# Altium schematic symbol library LL.SCHLIB: 121 symbols (part 3 of 3)
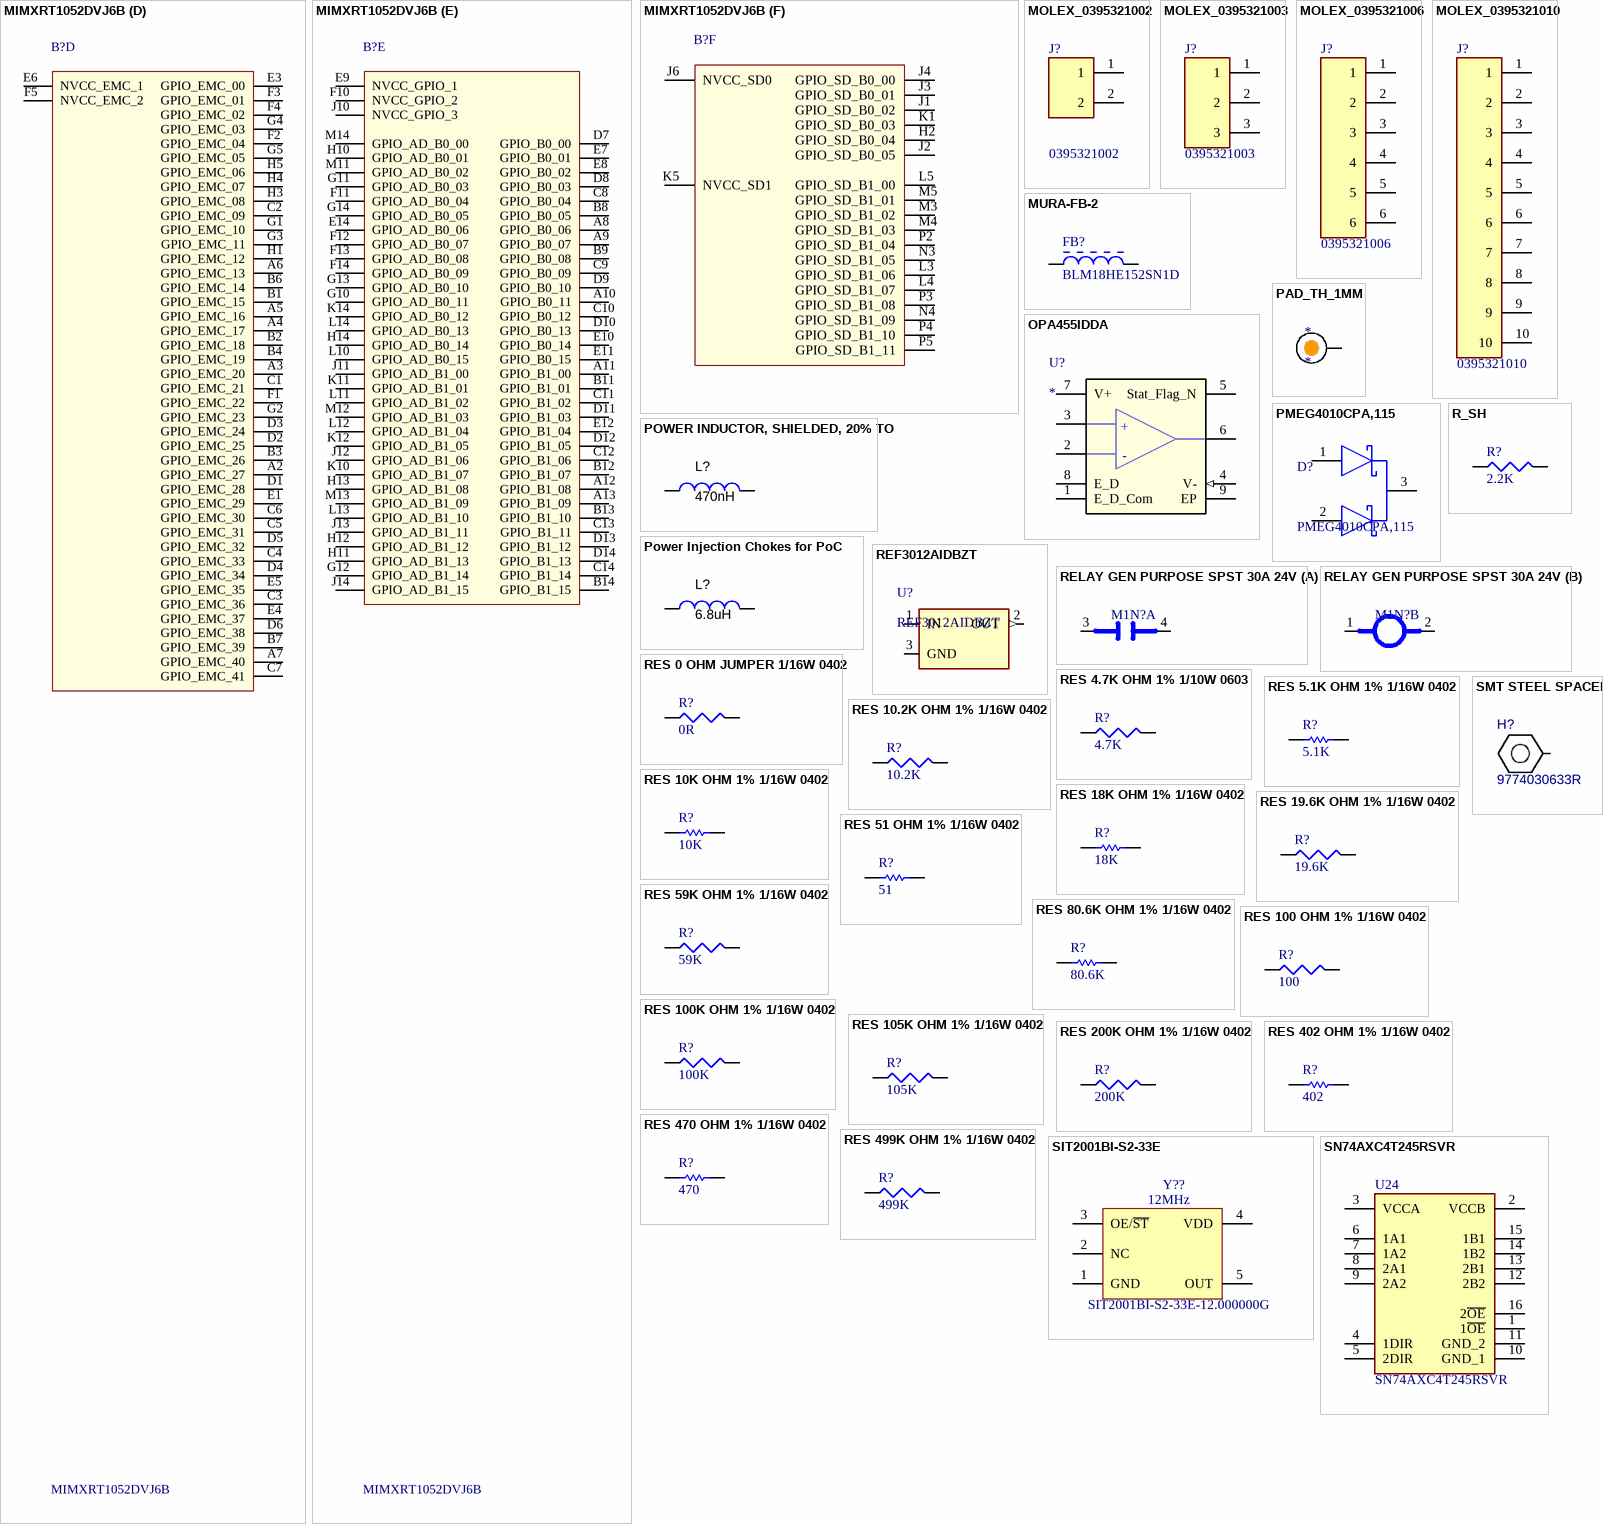
[diagram p9: symbols MIMXRT1052DVJ6B to SN74AXC4T245RSVR]

## RES 499K OHM 1% 1/16W 0402
designator R?, comment 499K
RES 499K OHM 1% 1/16W 0402; Manufacturer Part Number: RC0402FR-07499KL; Manufacturer: YAGEO; Supplier Part Number 1: 311-499KLRCT-ND; Supplier 1: Digi-Key; Height: 0.4mm; Package: 0402; value: 499K
footprint RESC1005X40USR (Resistor, Chip; 1.00 mm L X 0.50 mm W X 0.40 mm H body)
pins: 1, 2

## SIT2001BI-S2-33E
designator Y??, comment 12MHz  MPN: SIT2001BI-S2-33E-12.000000G
MEMS OSC XO 12.0000MHZ H/LV-CMOS; Mfg: SiTIME; Supplier PN: 1473-SIT2001BI-S2-33E-12.000000G-ND
footprint SOT23-5
pins: 1 GND, 2 NC, 3 OE/~{ST}, 4 VDD, 5 OUT

## SMT STEEL SPACER
designator H?, comment 9774030633R
SMT STEEL SPACER, M1.6 INTERNAL; Manufacturer: Würth Elektronik; PartNumber: 9774030633R; ComponentLink1Description: Datasheet Link; ComponentLink1URL: https://sps16.itg.ti.com/sites/KMS/crossdivteams/altium/docs/ComponentDatasheets/1104004000018---MAE-10.pdf; Supplier 1: Digi-Key; Supplier Part Number 1: 732-13691-2-ND
footprint 9774030633R
pins: 1

## SN74AXC4T245RSVR
designator U24
Integrated Circuit; Manufacturer_Name: Texas Instruments; Datasheet Link: http://www.ti.com/lit/gpn/SN74AXC4T245; Manufacturer_Part_Number: SN74AXC4T245RSVR; Mouser Part Number: 595-SN74AXC4T245RSVR; Mouser Price/Stock: https://www.mouser.co.uk/ProductDetail/Texas-Instruments/SN74AXC4T245RSVR?qs=l7cgNqFNU1h2hzizf0vSnA%3D%3D; Arrow Part Number: SN74AXC4T245RSVR; Arrow Price/Stock: https://www.arrow.com/en/products/sn74axc4t245rsvr/texas-instruments
footprint SN74AVC4T245RSVR
pins: 1 1~{OE}, 2 VCCB, 3 VCCA, 4 1DIR, 5 2DIR, 6 1A1, 7 1A2, 8 2A1, 9 2A2, 10 GND_1, 11 GND_2, 12 2B2, 13 2B1, 14 1B2, 15 1B1, 16 2~{OE}

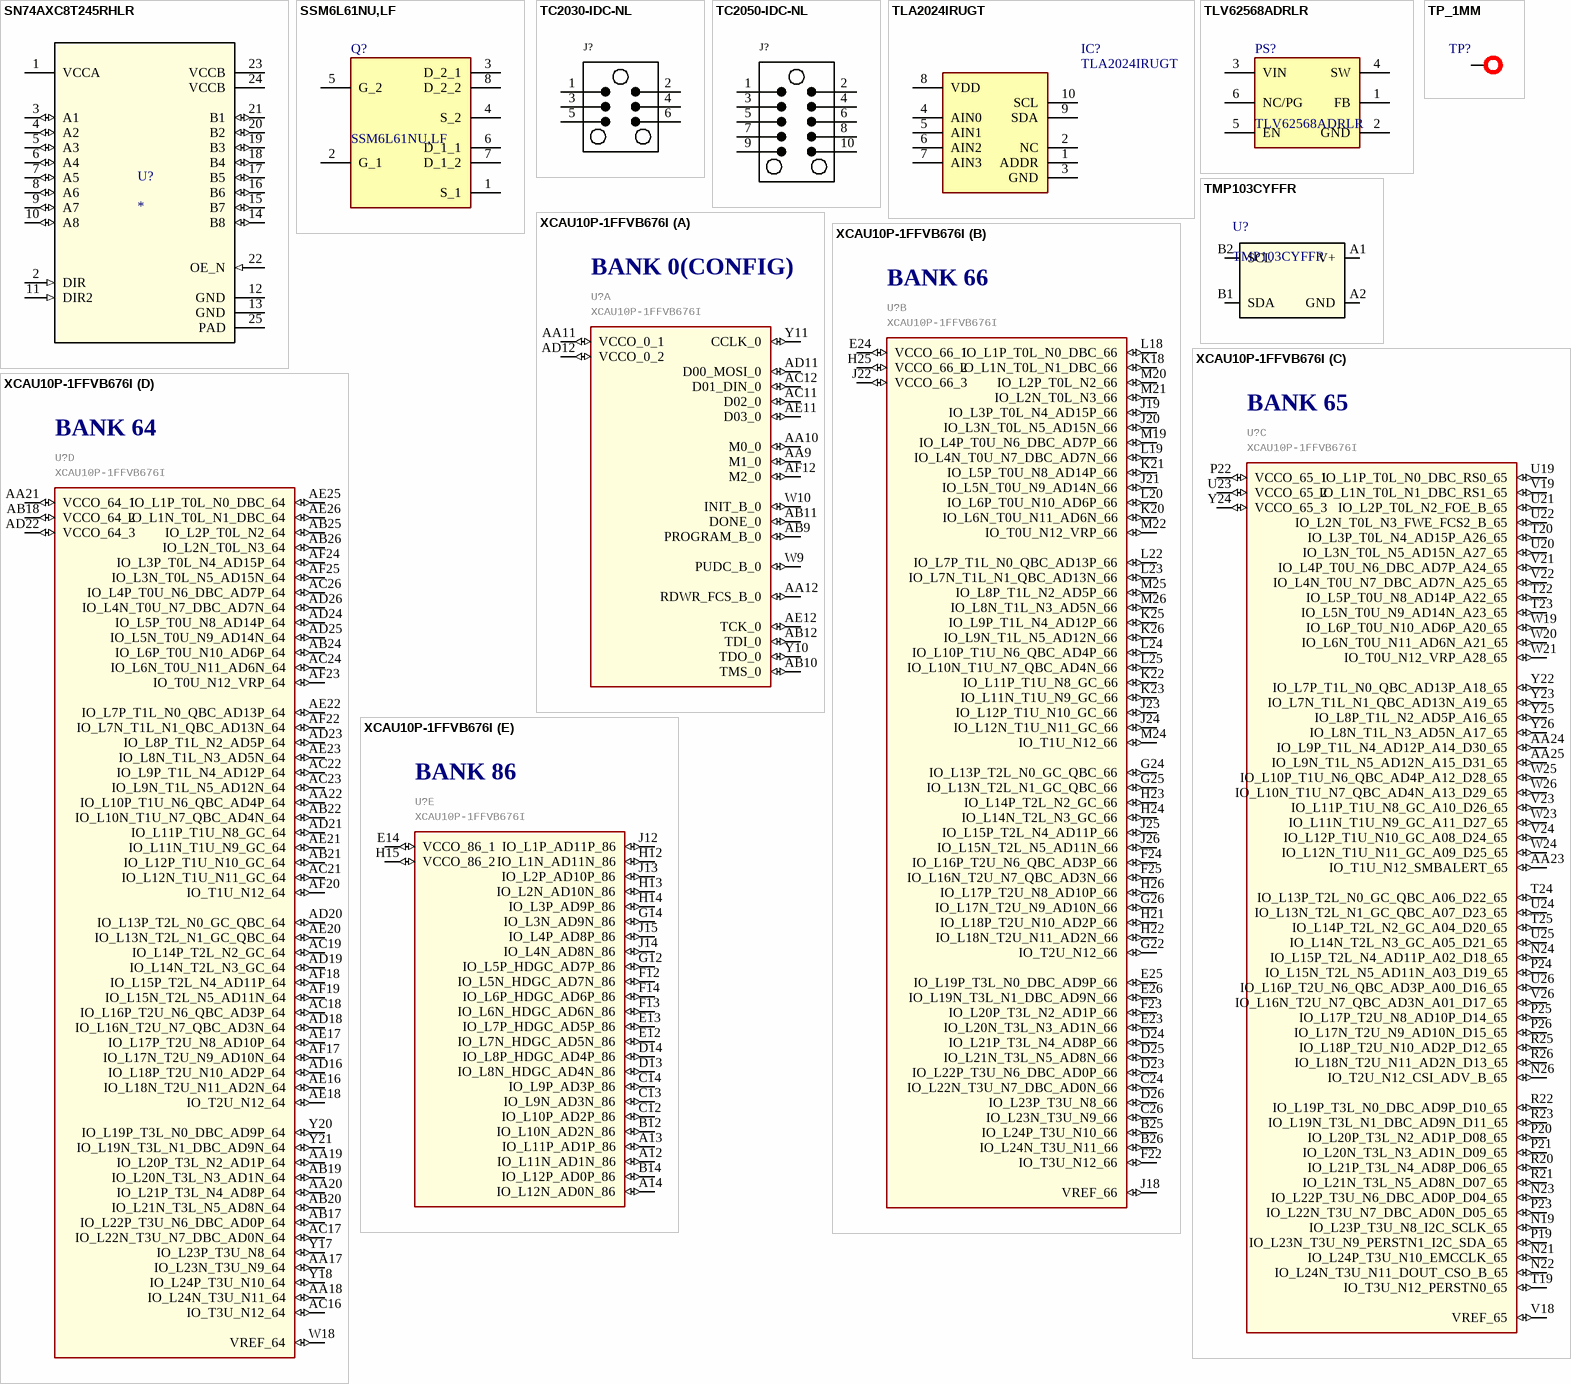
[diagram p6: symbols SN74AXC8T245RHLR to XCAU10P-1FFVB676I]

## SN74AXC8T245RHLR
designator U?
No Description Available; PartNumber: SN74AXC8T245RHLR; Manufacturer: Texas Instruments; RefDes: RefDes; Type: DEV; Value: Value; Copyright: Copyright (C) 2018 Accelerated Designs. All rights reserved
footprint RHL0024A
pins: 1 VCCA (power), 2 DIR (in), 3 A1 (io), 4 A2 (io), 5 A3 (io), 6 A4 (io), 7 A5 (io), 8 A6 (io), 9 A7 (io), 10 A8 (io), 11 DIR2 (in), 12 GND (power), 13 GND (power), 14 B8 (io), 15 B7 (io), 16 B6 (io), 17 B5 (io), 18 B4 (io), 19 B3 (io), 20 B2 (io), 21 B1 (io), 22 OE_N (in), 23 VCCB (power), 24 VCCB (power), 25 PAD

## SSM6L61NU,LF
designator Q?
MOSFET (N-Channel); Manufacturer_Name: Toshiba; Datasheet Link: https://toshiba.semicon-storage.com/info/docget.jsp?did=35567&prodName=SSM6L61NU; Height: 0.8mm; Manufacturer_Part_Number: SSM6L61NU,LF; Mouser Part Number: 757-SSM6L61NULF; Mouser Price/Stock: https://www.mouser.com/Search/Refine.aspx?Keyword=757-SSM6L61NULF; Arrow Part Number: SSM6L61NU,LF; Arrow Price/Stock: https://www.arrow.com/en/products/ssm6l61nulf/toshiba
footprint SSM6N68NULF
pins: 1 S_1, 2 G_1, 3 D_2_1, 4 S_2, 5 G_2, 6 D_1_1, 7 D_1_2, 8 D_2_2

## TC2030-IDC-NL
designator J?, comment Spy-Bi-Wire Needle Adapter  (value not drawn)  (no BOM)
Distributor: DigiKey; Package: Spy-Bi-Wire Needle Adapter; Value: Spy-Bi-Wire Needle Adapter
footprint TC2030-IDC-NL (Tag-Connect 6-Pin with No Legs (PN# TC2030-IDC-NL))
pins: 1 Pin, 2 Pin, 3 Pin, 4 Pin, 5 Pin, 6 Pin

## TC2050-IDC-NL
designator J?  (value not drawn)  (no BOM)
CBL PLUG-OF-NAILS 10-PIN; Distributor: DigiKey; Package: TC2050-IDC-NL; Value: TC2050-IDC-NL; Supplier Part Number 1: TC2050-IDC-NL-ND
footprint TC2030-IDC-NL (Tag-Connect 6-Pin with No Legs (PN# TC2030-IDC-NL))
pins: 1 Pin, 2 Pin, 3 Pin, 4 Pin, 5 Pin, 6 Pin, 7 Pin, 8 Pin, 9 Pin, 10 Pin

## TLA2024IRUGT
designator IC?
Integrated Circuit; Manufacturer_Name: Texas Instruments; Datasheet Link: http://www.ti.com/lit/ds/sbas846/sbas846.pdf; Height: 0.4mm; Manufacturer_Part_Number: TLA2024IRUGT; Mouser Part Number: 595-TLA2024IRUGT; Mouser Price/Stock: https://www.mouser.co.uk/ProductDetail/Texas-Instruments/TLA2024IRUGT/?qs=chTDxNqvsylxt6cbA39OGw%3D%3D; Arrow Part Number: TLA2024IRUGT; Arrow Price/Stock: https://www.arrow.com/en/products/tla2024irugt/texas-instruments
footprint ADS1018IRUGT
pins: 1 ADDR, 2 NC, 3 GND, 4 AIN0, 5 AIN1, 6 AIN2, 7 AIN3, 8 VDD, 9 SDA, 10 SCL

## TLV62568ADRLR
designator PS?
Power Supply; Manufacturer_Name: Texas Instruments; Datasheet Link: http://www.ti.com/lit/gpn/tlv62568a; Height: 0.6mm; Manufacturer_Part_Number: TLV62568ADRLR; Mouser Part Number: 595-TLV62568ADRLR; Mouser Price/Stock: https://www.mouser.co.uk/ProductDetail/Texas-Instruments/TLV62568ADRLR?qs=MLItCLRbWswaiJ7CZkvDtQ%3D%3D; Arrow Part Number: TLV62568ADRLR; Arrow Price/Stock: https://www.arrow.com/en/products/tlv62568adrlr/texas-instruments
footprint SOTFL50P160X60-6N
pins: 1 FB, 2 GND, 3 VIN, 4 SW, 5 EN, 6 NC/PG

## TMP103CYFFR
designator U?
SENSOR DIGITAL -40C-125C 4DSBGA; PartNumber: TMP103AYFFR; Manufacturer: Texas Instruments; Digi-Key Part Number: 296-28342-2-ND; Type: DEV; Value: Value; Copyright: Copyright (C) 2018 Accelerated Designs. All rights reserved
footprint YFF0004AAAA
pins: A1 V+, A2 GND, B1 SDA, B2 SCL

## TP_1MM
designator TP?, comment TEST POINT  (value not drawn)  (no BOM)
footprint TP 1mm (1 mm Probe Pad)
pins: 1

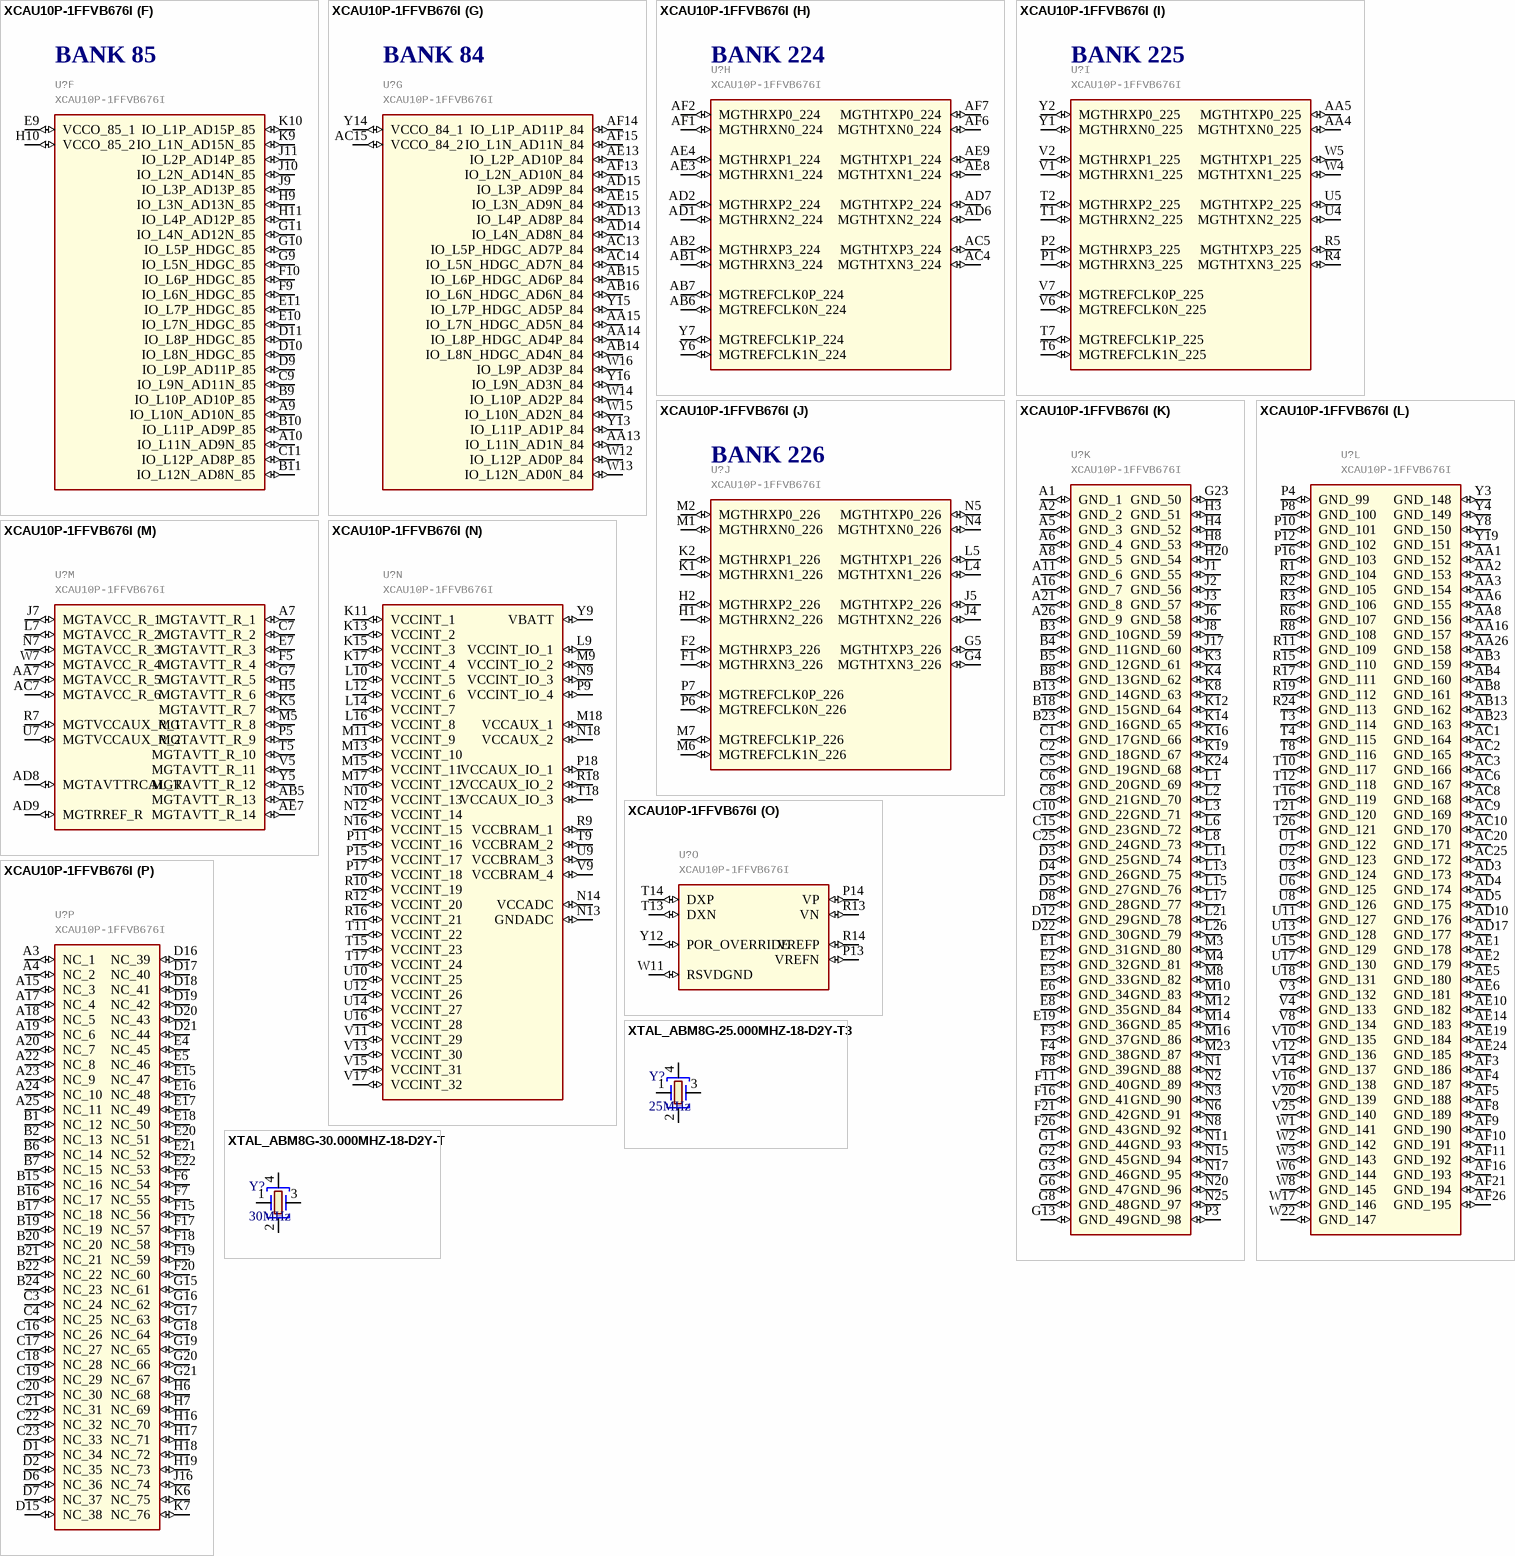
[diagram p7: symbols XCAU10P-1FFVB676I to XTAL_ABM8G-30.000MHZ-18-D2Y-T]

## XCAU10P-1FFVB676I
designator U?
IC FPGA ARTIXUP 676BGA; Manufacturer: AMD Xilinx; Manufacturer Part Number: XCAU10P-1FFVB676I; Supplier Part Number 1: 122-XCAU10P-1FFVB676I-ND; Supplier 1: Supplier
footprint 676-FCBGA (27x27)
part A pins: AA9 M1_0 (io), AA10 M0_0 (io), AA11 VCCO_0_1 (io), AA12 RDWR_FCS_B_0 (io), AB9 PROGRAM_B_0 (io), AB10 TMS_0 (io), AB11 DONE_0 (io), AB12 TDI_0 (io), AC11 D02_0 (io), AC12 D01_DIN_0 (io), AD11 D00_MOSI_0 (io), AD12 VCCO_0_2 (io), AE11 D03_0 (io), AE12 TCK_0 (io), AF12 M2_0 (io), W9 PUDC_B_0 (io), W10 INIT_B_0 (io), Y10 TDO_0 (io), Y11 CCLK_0 (io)
part B pins: B25 IO_L24P_T3U_N10_66 (io), B26 IO_L24N_T3U_N11_66 (io), C24 IO_L22N_T3U_N7_DBC_AD0N_66 (io), C26 IO_L23N_T3U_N9_66 (io), D23 IO_L22P_T3U_N6_DBC_AD0P_66 (io), D24 IO_L21P_T3L_N4_AD8P_66 (io), D25 IO_L21N_T3L_N5_AD8N_66 (io), D26 IO_L23P_T3U_N8_66 (io), E23 IO_L20N_T3L_N3_AD1N_66 (io), E24 VCCO_66_1 (io), E25 IO_L19P_T3L_N0_DBC_AD9P_66 (io), E26 IO_L19N_T3L_N1_DBC_AD9N_66 (io), F22 IO_T3U_N12_66 (io), F23 IO_L20P_T3L_N2_AD1P_66 (io), F24 IO_L16P_T2U_N6_QBC_AD3P_66 (io), F25 IO_L16N_T2U_N7_QBC_AD3N_66 (io), G22 IO_T2U_N12_66 (io), G24 IO_L13P_T2L_N0_GC_QBC_66 (io), G25 IO_L13N_T2L_N1_GC_QBC_66 (io), G26 IO_L17N_T2U_N9_AD10N_66 (io), H21 IO_L18P_T2U_N10_AD2P_66 (io), H22 IO_L18N_T2U_N11_AD2N_66 (io), H23 IO_L14P_T2L_N2_GC_66 (io), H24 IO_L14N_T2L_N3_GC_66 (io), H25 VCCO_66_2 (io), H26 IO_L17P_T2U_N8_AD10P_66 (io), J18 VREF_66 (io), J19 IO_L3P_T0L_N4_AD15P_66 (io), J20 IO_L3N_T0L_N5_AD15N_66 (io), J21 IO_L5N_T0U_N9_AD14N_66 (io), J22 VCCO_66_3 (io), J23 IO_L12P_T1U_N10_GC_66 (io), J24 IO_L12N_T1U_N11_GC_66 (io), J25 IO_L15P_T2L_N4_AD11P_66 (io), J26 IO_L15N_T2L_N5_AD11N_66 (io), K18 IO_L1N_T0L_N1_DBC_66 (io), K20 IO_L6N_T0U_N11_AD6N_66 (io), K21 IO_L5P_T0U_N8_AD14P_66 (io), K22 IO_L11P_T1U_N8_GC_66 (io), K23 IO_L11N_T1U_N9_GC_66 (io), K25 IO_L9P_T1L_N4_AD12P_66 (io), K26 IO_L9N_T1L_N5_AD12N_66 (io), L18 IO_L1P_T0L_N0_DBC_66 (io), L19 IO_L4N_T0U_N7_DBC_AD7N_66 (io), L20 IO_L6P_T0U_N10_AD6P_66 (io), L22 IO_L7P_T1L_N0_QBC_AD13P_66 (io), L23 IO_L7N_T1L_N1_QBC_AD13N_66 (io), L24 IO_L10P_T1U_N6_QBC_AD4P_66 (io), L25 IO_L10N_T1U_N7_QBC_AD4N_66 (io), M19 IO_L4P_T0U_N6_DBC_AD7P_66 (io), M20 IO_L2P_T0L_N2_66 (io), M21 IO_L2N_T0L_N3_66 (io), M22 IO_T0U_N12_VRP_66 (io), M24 IO_T1U_N12_66 (io), M25 IO_L8P_T1L_N2_AD5P_66 (io), M26 IO_L8N_T1L_N3_AD5N_66 (io)
part C pins: AA23 IO_T1U_N12_SMBALERT_65 (io), AA24 IO_L9P_T1L_N4_AD12P_A14_D30_65 (io), AA25 IO_L9N_T1L_N5_AD12N_A15_D31_65 (io), N19 IO_L23P_T3U_N8_I2C_SCLK_65 (io), N21 IO_L24P_T3U_N10_EMCCLK_65 (io), N22 IO_L24N_T3U_N11_DOUT_CSO_B_65 (io), N23 IO_L22P_T3U_N6_DBC_AD0P_D04_65 (io), N24 IO_L15P_T2L_N4_AD11P_A02_D18_65 (io), N26 IO_T2U_N12_CSI_ADV_B_65 (io), P19 IO_L23N_T3U_N9_PERSTN1_I2C_SDA_65 (io), P20 IO_L20P_T3L_N2_AD1P_D08_65 (io), P21 IO_L20N_T3L_N3_AD1N_D09_65 (io), P22 VCCO_65_1 (io), P23 IO_L22N_T3U_N7_DBC_AD0N_D05_65 (io), P24 IO_L15N_T2L_N5_AD11N_A03_D19_65 (io), P25 IO_L17P_T2U_N8_AD10P_D14_65 (io), P26 IO_L17N_T2U_N9_AD10N_D15_65 (io), R20 IO_L21P_T3L_N4_AD8P_D06_65 (io), R21 IO_L21N_T3L_N5_AD8N_D07_65 (io), R22 IO_L19P_T3L_N0_DBC_AD9P_D10_65 (io), R23 IO_L19N_T3L_N1_DBC_AD9N_D11_65 (io), R25 IO_L18P_T2U_N10_AD2P_D12_65 (io), R26 IO_L18N_T2U_N11_AD2N_D13_65 (io), T19 IO_T3U_N12_PERSTN0_65 (io), T20 IO_L3P_T0L_N4_AD15P_A26_65 (io), T22 IO_L5P_T0U_N8_AD14P_A22_65 (io), T23 IO_L5N_T0U_N9_AD14N_A23_65 (io), T24 IO_L13P_T2L_N0_GC_QBC_A06_D22_65 (io), T25 IO_L14P_T2L_N2_GC_A04_D20_65 (io), U19 IO_L1P_T0L_N0_DBC_RS0_65 (io), U20 IO_L3N_T0L_N5_AD15N_A27_65 (io), U21 IO_L2P_T0L_N2_FOE_B_65 (io), U22 IO_L2N_T0L_N3_FWE_FCS2_B_65 (io), U23 VCCO_65_2 (io), U24 IO_L13N_T2L_N1_GC_QBC_A07_D23_65 (io), U25 IO_L14N_T2L_N3_GC_A05_D21_65 (io), U26 IO_L16P_T2U_N6_QBC_AD3P_A00_D16_65 (io), V18 VREF_65 (io), V19 IO_L1N_T0L_N1_DBC_RS1_65 (io), V21 IO_L4P_T0U_N6_DBC_AD7P_A24_65 (io), V22 IO_L4N_T0U_N7_DBC_AD7N_A25_65 (io), V23 IO_L11P_T1U_N8_GC_A10_D26_65 (io), V24 IO_L12P_T1U_N10_GC_A08_D24_65 (io), V26 IO_L16N_T2U_N7_QBC_AD3N_A01_D17_65 (io), W19 IO_L6P_T0U_N10_AD6P_A20_65 (io), W20 IO_L6N_T0U_N11_AD6N_A21_65 (io), W21 IO_T0U_N12_VRP_A28_65 (io), W23 IO_L11N_T1U_N9_GC_A11_D27_65 (io), W24 IO_L12N_T1U_N11_GC_A09_D25_65 (io), W25 IO_L10P_T1U_N6_QBC_AD4P_A12_D28_65 (io), W26 IO_L10N_T1U_N7_QBC_AD4N_A13_D29_65 (io), Y22 IO_L7P_T1L_N0_QBC_AD13P_A18_65 (io), Y23 IO_L7N_T1L_N1_QBC_AD13N_A19_65 (io), Y24 VCCO_65_3 (io), Y25 IO_L8P_T1L_N2_AD5P_A16_65 (io), Y26 IO_L8N_T1L_N3_AD5N_A17_65 (io)
part D pins: AA17 IO_L23N_T3U_N9_64 (io), AA18 IO_L24N_T3U_N11_64 (io), AA19 IO_L20P_T3L_N2_AD1P_64 (io), AA20 IO_L21P_T3L_N4_AD8P_64 (io), AA21 VCCO_64_1 (io), AA22 IO_L10P_T1U_N6_QBC_AD4P_64 (io), AB17 IO_L22P_T3U_N6_DBC_AD0P_64 (io), AB18 VCCO_64_2 (io), AB19 IO_L20N_T3L_N3_AD1N_64 (io), AB20 IO_L21N_T3L_N5_AD8N_64 (io), AB21 IO_L12P_T1U_N10_GC_64 (io), AB22 IO_L10N_T1U_N7_QBC_AD4N_64 (io), AB24 IO_L6P_T0U_N10_AD6P_64 (io), AB25 IO_L2P_T0L_N2_64 (io), AB26 IO_L2N_T0L_N3_64 (io), AC16 IO_T3U_N12_64 (io), AC17 IO_L22N_T3U_N7_DBC_AD0N_64 (io), AC18 IO_L16P_T2U_N6_QBC_AD3P_64 (io), AC19 IO_L14P_T2L_N2_GC_64 (io), AC21 IO_L12N_T1U_N11_GC_64 (io), AC22 IO_L9P_T1L_N4_AD12P_64 (io), AC23 IO_L9N_T1L_N5_AD12N_64 (io), AC24 IO_L6N_T0U_N11_AD6N_64 (io), AC26 IO_L4P_T0U_N6_DBC_AD7P_64 (io), AD16 IO_L18P_T2U_N10_AD2P_64 (io), AD18 IO_L16N_T2U_N7_QBC_AD3N_64 (io), AD19 IO_L14N_T2L_N3_GC_64 (io), AD20 IO_L13P_T2L_N0_GC_QBC_64 (io), AD21 IO_L11P_T1U_N8_GC_64 (io), AD22 VCCO_64_3 (io), AD23 IO_L8P_T1L_N2_AD5P_64 (io), AD24 IO_L5P_T0U_N8_AD14P_64 (io), AD25 IO_L5N_T0U_N9_AD14N_64 (io), AD26 IO_L4N_T0U_N7_DBC_AD7N_64 (io), AE16 IO_L18N_T2U_N11_AD2N_64 (io), AE17 IO_L17P_T2U_N8_AD10P_64 (io), AE18 IO_T2U_N12_64 (io), AE20 IO_L13N_T2L_N1_GC_QBC_64 (io), AE21 IO_L11N_T1U_N9_GC_64 (io), AE22 IO_L7P_T1L_N0_QBC_AD13P_64 (io), AE23 IO_L8N_T1L_N3_AD5N_64 (io), AE25 IO_L1P_T0L_N0_DBC_64 (io), AE26 IO_L1N_T0L_N1_DBC_64 (io), AF17 IO_L17N_T2U_N9_AD10N_64 (io), AF18 IO_L15P_T2L_N4_AD11P_64 (io), AF19 IO_L15N_T2L_N5_AD11N_64 (io), AF20 IO_T1U_N12_64 (io), AF22 IO_L7N_T1L_N1_QBC_AD13N_64 (io), AF23 IO_T0U_N12_VRP_64 (io), AF24 IO_L3P_T0L_N4_AD15P_64 (io), AF25 IO_L3N_T0L_N5_AD15N_64 (io), W18 VREF_64 (io), Y17 IO_L23P_T3U_N8_64 (io), Y18 IO_L24P_T3U_N10_64 (io), Y20 IO_L19P_T3L_N0_DBC_AD9P_64 (io), Y21 IO_L19N_T3L_N1_DBC_AD9N_64 (io)
part E pins: A12 IO_L11N_AD1N_86 (io), A13 IO_L11P_AD1P_86 (io), A14 IO_L12N_AD0N_86 (io), B12 IO_L10N_AD2N_86 (io), B14 IO_L12P_AD0P_86 (io), C12 IO_L10P_AD2P_86 (io), C13 IO_L9N_AD3N_86 (io), C14 IO_L9P_AD3P_86 (io), D13 IO_L8N_HDGC_AD4N_86 (io), D14 IO_L8P_HDGC_AD4P_86 (io), E12 IO_L7N_HDGC_AD5N_86 (io), E13 IO_L7P_HDGC_AD5P_86 (io), E14 VCCO_86_1 (io), F12 IO_L5N_HDGC_AD7N_86 (io), F13 IO_L6N_HDGC_AD6N_86 (io), F14 IO_L6P_HDGC_AD6P_86 (io), G12 IO_L5P_HDGC_AD7P_86 (io), G14 IO_L3N_AD9N_86 (io), H12 IO_L1N_AD11N_86 (io), H13 IO_L2N_AD10N_86 (io), H14 IO_L3P_AD9P_86 (io), H15 VCCO_86_2 (io), J12 IO_L1P_AD11P_86 (io), J13 IO_L2P_AD10P_86 (io), J14 IO_L4N_AD8N_86 (io), J15 IO_L4P_AD8P_86 (io)
part F pins: A9 IO_L10N_AD10N_85 (io), A10 IO_L11N_AD9N_85 (io), B9 IO_L10P_AD10P_85 (io), B10 IO_L11P_AD9P_85 (io), B11 IO_L12N_AD8N_85 (io), C9 IO_L9N_AD11N_85 (io), C11 IO_L12P_AD8P_85 (io), D9 IO_L9P_AD11P_85 (io), D10 IO_L8N_HDGC_85 (io), D11 IO_L8P_HDGC_85 (io), E9 VCCO_85_1 (io), E10 IO_L7N_HDGC_85 (io), E11 IO_L7P_HDGC_85 (io), F9 IO_L6N_HDGC_85 (io), F10 IO_L6P_HDGC_85 (io), G9 IO_L5N_HDGC_85 (io), G10 IO_L5P_HDGC_85 (io), G11 IO_L4N_AD12N_85 (io), H9 IO_L3N_AD13N_85 (io), H10 VCCO_85_2 (io), H11 IO_L4P_AD12P_85 (io), J9 IO_L3P_AD13P_85 (io), J10 IO_L2N_AD14N_85 (io), J11 IO_L2P_AD14P_85 (io), K9 IO_L1N_AD15N_85 (io), K10 IO_L1P_AD15P_85 (io)
part G pins: AA13 IO_L11N_AD1N_84 (io), AA14 IO_L8P_HDGC_AD4P_84 (io), AA15 IO_L7N_HDGC_AD5N_84 (io), AB14 IO_L8N_HDGC_AD4N_84 (io), AB15 IO_L6P_HDGC_AD6P_84 (io), AB16 IO_L6N_HDGC_AD6N_84 (io), AC13 IO_L5P_HDGC_AD7P_84 (io), AC14 IO_L5N_HDGC_AD7N_84 (io), AC15 VCCO_84_2 (io), AD13 IO_L4P_AD8P_84 (io), AD14 IO_L4N_AD8N_84 (io), AD15 IO_L3P_AD9P_84 (io), AE13 IO_L2P_AD10P_84 (io), AE15 IO_L3N_AD9N_84 (io), AF13 IO_L2N_AD10N_84 (io), AF14 IO_L1P_AD11P_84 (io), AF15 IO_L1N_AD11N_84 (io), W12 IO_L12P_AD0P_84 (io), W13 IO_L12N_AD0N_84 (io), W14 IO_L10P_AD2P_84 (io), W15 IO_L10N_AD2N_84 (io), W16 IO_L9P_AD3P_84 (io), Y13 IO_L11P_AD1P_84 (io), Y14 VCCO_84_1 (io), Y15 IO_L7P_HDGC_AD5P_84 (io), Y16 IO_L9N_AD3N_84 (io)
part H pins: AB1 MGTHRXN3_224 (io), AB2 MGTHRXP3_224 (io), AB6 MGTREFCLK0N_224 (io), AB7 MGTREFCLK0P_224 (io), AC4 MGTHTXN3_224 (io), AC5 MGTHTXP3_224 (io), AD1 MGTHRXN2_224 (io), AD2 MGTHRXP2_224 (io), AD6 MGTHTXN2_224 (io), AD7 MGTHTXP2_224 (io), AE3 MGTHRXN1_224 (io), AE4 MGTHRXP1_224 (io), AE8 MGTHTXN1_224 (io), AE9 MGTHTXP1_224 (io), AF1 MGTHRXN0_224 (io), AF2 MGTHRXP0_224 (io), AF6 MGTHTXN0_224 (io), AF7 MGTHTXP0_224 (io), Y6 MGTREFCLK1N_224 (io), Y7 MGTREFCLK1P_224 (io)
part I pins: AA4 MGTHTXN0_225 (io), AA5 MGTHTXP0_225 (io), P1 MGTHRXN3_225 (io), P2 MGTHRXP3_225 (io), R4 MGTHTXN3_225 (io), R5 MGTHTXP3_225 (io), T1 MGTHRXN2_225 (io), T2 MGTHRXP2_225 (io), T6 MGTREFCLK1N_225 (io), T7 MGTREFCLK1P_225 (io), U4 MGTHTXN2_225 (io), U5 MGTHTXP2_225 (io), V1 MGTHRXN1_225 (io), V2 MGTHRXP1_225 (io), V6 MGTREFCLK0N_225 (io), V7 MGTREFCLK0P_225 (io), W4 MGTHTXN1_225 (io), W5 MGTHTXP1_225 (io), Y1 MGTHRXN0_225 (io), Y2 MGTHRXP0_225 (io)
part J pins: F1 MGTHRXN3_226 (io), F2 MGTHRXP3_226 (io), G4 MGTHTXN3_226 (io), G5 MGTHTXP3_226 (io), H1 MGTHRXN2_226 (io), H2 MGTHRXP2_226 (io), J4 MGTHTXN2_226 (io), J5 MGTHTXP2_226 (io), K1 MGTHRXN1_226 (io), K2 MGTHRXP1_226 (io), L4 MGTHTXN1_226 (io), L5 MGTHTXP1_226 (io), M1 MGTHRXN0_226 (io), M2 MGTHRXP0_226 (io), M6 MGTREFCLK1N_226 (io), M7 MGTREFCLK1P_226 (io), N4 MGTHTXN0_226 (io), N5 MGTHTXP0_226 (io), P6 MGTREFCLK0N_226 (io), P7 MGTREFCLK0P_226 (io)
part K pins: A1 GND_1 (io), A2 GND_2 (io), A5 GND_3 (io), A6 GND_4 (io), A8 GND_5 (io), A11 GND_6 (io), A16 GND_7 (io), A21 GND_8 (io), A26 GND_9 (io), B3 GND_10 (io), B4 GND_11 (io), B5 GND_12 (io), B8 GND_13 (io), B13 GND_14 (io), B18 GND_15 (io), B23 GND_16 (io), C1 GND_17 (io), C2 GND_18 (io), C5 GND_19 (io), C6 GND_20 (io), C8 GND_21 (io), C10 GND_22 (io), C15 GND_23 (io), C25 GND_24 (io), D3 GND_25 (io), D4 GND_26 (io), D5 GND_27 (io), D8 GND_28 (io), D12 GND_29 (io), D22 GND_30 (io), E1 GND_31 (io), E2 GND_32 (io), E3 GND_33 (io), E6 GND_34 (io), E8 GND_35 (io), E19 GND_36 (io), F3 GND_37 (io), F4 GND_38 (io), F8 GND_39 (io), F11 GND_40 (io), F16 GND_41 (io), F21 GND_42 (io), F26 GND_43 (io), G1 GND_44 (io), G2 GND_45 (io), G3 GND_46 (io), G6 GND_47 (io), G8 GND_48 (io), G13 GND_49 (io), G23 GND_50 (io), H3 GND_51 (io), H4 GND_52 (io), H8 GND_53 (io), H20 GND_54 (io), J1 GND_55 (io), J2 GND_56 (io), J3 GND_57 (io), J6 GND_58 (io), J8 GND_59 (io), J17 GND_60 (io), K3 GND_61 (io), K4 GND_62 (io), K8 GND_63 (io), K12 GND_64 (io), K14 GND_65 (io), K16 GND_66 (io), K19 GND_67 (io), K24 GND_68 (io), L1 GND_69 (io), L2 GND_70 (io), L3 GND_71 (io), L6 GND_72 (io), L8 GND_73 (io), L11 GND_74 (io), L13 GND_75 (io), L15 GND_76 (io), L17 GND_77 (io), L21 GND_78 (io), L26 GND_79 (io), M3 GND_80 (io), M4 GND_81 (io), M8 GND_82 (io), M10 GND_83 (io), M12 GND_84 (io), M14 GND_85 (io), M16 GND_86 (io), M23 GND_87 (io), N1 GND_88 (io), N2 GND_89 (io), N3 GND_90 (io), N6 GND_91 (io), N8 GND_92 (io), N11 GND_93 (io), N15 GND_94 (io), N17 GND_95 (io), N20 GND_96 (io), N25 GND_97 (io), P3 GND_98 (io)
part L pins: AA1 GND_152 (io), AA2 GND_153 (io), AA3 GND_154 (io), AA6 GND_155 (io), AA8 GND_156 (io), AA16 GND_157 (io), AA26 GND_158 (io), AB3 GND_159 (io), AB4 GND_160 (io), AB8 GND_161 (io), AB13 GND_162 (io), AB23 GND_163 (io), AC1 GND_164 (io), AC2 GND_165 (io), AC3 GND_166 (io), AC6 GND_167 (io), AC8 GND_168 (io), AC9 GND_169 (io), AC10 GND_170 (io), AC20 GND_171 (io), AC25 GND_172 (io), AD3 GND_173 (io), AD4 GND_174 (io), AD5 GND_175 (io), AD10 GND_176 (io), AD17 GND_177 (io), AE1 GND_178 (io), AE2 GND_179 (io), AE5 GND_180 (io), AE6 GND_181 (io), AE10 GND_182 (io), AE14 GND_183 (io), AE19 GND_184 (io), AE24 GND_185 (io), AF3 GND_186 (io), AF4 GND_187 (io), AF5 GND_188 (io), AF8 GND_189 (io), AF9 GND_190 (io), AF10 GND_191 (io), AF11 GND_192 (io), AF16 GND_193 (io), AF21 GND_194 (io), AF26 GND_195 (io), P4 GND_99 (io), P8 GND_100 (io), P10 GND_101 (io), P12 GND_102 (io), P16 GND_103 (io), R1 GND_104 (io), R2 GND_105 (io), R3 GND_106 (io), R6 GND_107 (io), R8 GND_108 (io), R11 GND_109 (io), R15 GND_110 (io), R17 GND_111 (io), R19 GND_112 (io), R24 GND_113 (io), T3 GND_114 (io), T4 GND_115 (io), T8 GND_116 (io), T10 GND_117 (io), T12 GND_118 (io), T16 GND_119 (io), T21 GND_120 (io), T26 GND_121 (io), U1 GND_122 (io), U2 GND_123 (io), U3 GND_124 (io), U6 GND_125 (io), U8 GND_126 (io), U11 GND_127 (io), U13 GND_128 (io), U15 GND_129 (io), U17 GND_130 (io), U18 GND_131 (io), V3 GND_132 (io), V4 GND_133 (io), V8 GND_134 (io), V10 GND_135 (io), V12 GND_136 (io), V14 GND_137 (io), V16 GND_138 (io), V20 GND_139 (io), V25 GND_140 (io), W1 GND_141 (io), W2 GND_142 (io), W3 GND_143 (io), W6 GND_144 (io), W8 GND_145 (io), W17 GND_146 (io), W22 GND_147 (io), Y3 GND_148 (io), Y4 GND_149 (io), Y8 GND_150 (io), Y19 GND_151 (io)
part M pins: A7 MGTAVTT_R_1 (io), AA7 MGTAVCC_R_5 (io), AB5 MGTAVTT_R_13 (io), AC7 MGTAVCC_R_6 (io), AD8 MGTAVTTRCAL_R (io), AD9 MGTRREF_R (io), AE7 MGTAVTT_R_14 (io), C7 MGTAVTT_R_2 (io), E7 MGTAVTT_R_3 (io), F5 MGTAVTT_R_4 (io), G7 MGTAVTT_R_5 (io), H5 MGTAVTT_R_6 (io), J7 MGTAVCC_R_1 (io), K5 MGTAVTT_R_7 (io), L7 MGTAVCC_R_2 (io), M5 MGTAVTT_R_8 (io), N7 MGTAVCC_R_3 (io), P5 MGTAVTT_R_9 (io), R7 MGTVCCAUX_R_1 (io), T5 MGTAVTT_R_10 (io), U7 MGTVCCAUX_R_2 (io), V5 MGTAVTT_R_11 (io), W7 MGTAVCC_R_4 (io), Y5 MGTAVTT_R_12 (io)
part N pins: K11 VCCINT_1 (io), K13 VCCINT_2 (io), K15 VCCINT_3 (io), K17 VCCINT_4 (io), L9 VCCINT_IO_1 (io), L10 VCCINT_5 (io), L12 VCCINT_6 (io), L14 VCCINT_7 (io), L16 VCCINT_8 (io), M9 VCCINT_IO_2 (io), M11 VCCINT_9 (io), M13 VCCINT_10 (io), M15 VCCINT_11 (io), M17 VCCINT_12 (io), M18 VCCAUX_1 (io), N9 VCCINT_IO_3 (io), N10 VCCINT_13 (io), N12 VCCINT_14 (io), N13 GNDADC (io), N14 VCCADC (io), N16 VCCINT_15 (io), N18 VCCAUX_2 (io), P9 VCCINT_IO_4 (io), P11 VCCINT_16 (io), P15 VCCINT_17 (io), P17 VCCINT_18 (io), P18 VCCAUX_IO_1 (io), R9 VCCBRAM_1 (io), R10 VCCINT_19 (io), R12 VCCINT_20 (io), R16 VCCINT_21 (io), R18 VCCAUX_IO_2 (io), T9 VCCBRAM_2 (io), T11 VCCINT_22 (io), T15 VCCINT_23 (io), T17 VCCINT_24 (io), T18 VCCAUX_IO_3 (io), U9 VCCBRAM_3 (io), U10 VCCINT_25 (io), U12 VCCINT_26 (io), U14 VCCINT_27 (io), U16 VCCINT_28 (io), V9 VCCBRAM_4 (io), V11 VCCINT_29 (io), V13 VCCINT_30 (io), V15 VCCINT_31 (io), V17 VCCINT_32 (io), Y9 VBATT (io)
part O pins: P13 VREFN (io), P14 VP (io), R13 VN (io), R14 VREFP (io), T13 DXN (io), T14 DXP (io), W11 RSVDGND (io), Y12 POR_OVERRIDE (io)
part P pins: A3 NC_1 (io), A4 NC_2 (io), A15 NC_3 (io), A17 NC_4 (io), A18 NC_5 (io), A19 NC_6 (io), A20 NC_7 (io), A22 NC_8 (io), A23 NC_9 (io), A24 NC_10 (io), A25 NC_11 (io), B1 NC_12 (io), B2 NC_13 (io), B6 NC_14 (io), B7 NC_15 (io), B15 NC_16 (io), B16 NC_17 (io), B17 NC_18 (io), B19 NC_19 (io), B20 NC_20 (io), B21 NC_21 (io), B22 NC_22 (io), B24 NC_23 (io), C3 NC_24 (io), C4 NC_25 (io), C16 NC_26 (io), C17 NC_27 (io), C18 NC_28 (io), C19 NC_29 (io), C20 NC_30 (io), C21 NC_31 (io), C22 NC_32 (io), C23 NC_33 (io), D1 NC_34 (io), D2 NC_35 (io), D6 NC_36 (io), D7 NC_37 (io), D15 NC_38 (io), D16 NC_39 (io), D17 NC_40 (io), D18 NC_41 (io), D19 NC_42 (io), D20 NC_43 (io), D21 NC_44 (io), E4 NC_45 (io), E5 NC_46 (io), E15 NC_47 (io), E16 NC_48 (io), E17 NC_49 (io), E18 NC_50 (io), E20 NC_51 (io), E21 NC_52 (io), E22 NC_53 (io), F6 NC_54 (io), F7 NC_55 (io), F15 NC_56 (io), F17 NC_57 (io), F18 NC_58 (io), F19 NC_59 (io), F20 NC_60 (io), G15 NC_61 (io), G16 NC_62 (io), G17 NC_63 (io), G18 NC_64 (io), G19 NC_65 (io), G20 NC_66 (io), G21 NC_67 (io), H6 NC_68 (io), H7 NC_69 (io), H16 NC_70 (io), H17 NC_71 (io), H18 NC_72 (io), H19 NC_73 (io), J16 NC_74 (io), K6 NC_75 (io), K7 NC_76 (io)
part A text: BANK 0(CONFIG)
part B text: BANK 66
part C text: BANK 65
part D text: BANK 64
part E text: BANK 86
part F text: BANK 85
part G text: BANK 84
part H text: BANK 224
part I text: BANK 225
part J text: BANK 226

## XTAL_ABM8G-25.000MHZ-18-D2Y-T3
designator Y?, comment 25MHz
Crystal 25MHz ±20ppm (Tol) ±30ppm (Stability) 18pF FUND 60Ohm 4-Pin Ultra Mini-CSMD T/R; Manufacturer: Abracon; Manufacturer Part Number: ABM8G-25.000MHZ-18-D2Y-T3; ESR (Equivalent Series Resistance): 60R; Supplier 1: Mouser; Supplier Part Number 1: 815-ABM8G2518D2YT3; RoHS: Yes; Category: Crystals; Stock: 10548; Pricing: 1=0.46, 10=0.365, 50=0.365, 100=0.348, 1000=0.284, 10000=0.257 (USD); Mounting Technology: Surface Mount; Case/Package: SMD/SMT; Pins: 4; Min Operating Temperature: -40°C; Max Operating Temperature: 85°C; Package Quantity: 3000; Frequency: 25MHz; Frequency Tolerance: 20ppm; Load Capacitance: 18pF; Packaging: Tape and Reel; Tolerance: 20ppm; Frequency Stability: 30ppm; Termination: SMD/SMT; ESR: 60R; Series: ABM8G; Length: 3.2mm; Width: 2.5mm; Height: 0.039inch; Depth: 2.5mm; Radiation Hardening: No; ComponentLink1URL: https://datasheet.ciiva.com/862/abm8g-862352.pdf?src-supplier=Digikey; ComponentLink1Description: https://datasheet.ciiva.com/862/abm8g-862352.pdf?src-supplier=Digikey; ComponentLink2URL: https://datasheet.ciiva.com/3176/abm8g-3176078.pdf?src-supplier=Avnet; ComponentLink2Description: https://datasheet.ciiva.com/3176/abm8g-3176078.pdf?src-supplier=Avnet
footprint XTAL_ABM8G_3225
pins: 1, 2 SH, 3, 4 SH hidden, 4 SH

## XTAL_ABM8G-30.000MHZ-18-D2Y-T
designator Y?, comment 30MHz
Crystal 30MHz ±20ppm (Tol) ±30ppm (Stability) 18pF FUND 50Ohm 4-Pin Ultra Mini-CSMD T/R; Manufacturer: Abracon; Manufacturer Part Number: ABM8G-30.000MHZ-18-D2Y-T; ESR (Equivalent Series Resistance): 50R; Supplier 1: Digikey; Supplier Part Number 1: 535-10279-1-ND; RoHS: Yes; Category: Crystals; Stock: 24437; Pricing: 1=0.98, 10=0.591, 50=0.5052 (USD); Mounting Technology: Surface Mount; Case/Package: SMD/SMT; Pins: 4; Min Operating Temperature: -40°C; Max Operating Temperature: 85°C; Packaging: Tape and Reel; Frequency Tolerance: 20ppm; Load Capacitance: 18pF; Frequency: 30MHz; Package Quantity: 1000; Tolerance: 20ppm; Frequency Stability: 30ppm; Termination: SMD/SMT; Series: ABM8G; Operating Frequency: 30 MHz; Length: 3.2mm; Width: 0.098inch; Height: 0.039inch; Depth: 2.5mm; Lead Free: Lead Free; ComponentLink1URL: https://datasheet.ciiva.com/858/abm8g-858536.pdf?src-supplier=Digikey; ComponentLink1Description: https://datasheet.ciiva.com/858/abm8g-858536.pdf?src-supplier=Digikey; ComponentLink2URL: https://datasheet.ciiva.com/858/abm8g-858537.pdf?src-supplier=Digikey; ComponentLink2Description: https://datasheet.ciiva.com/858/abm8g-858537.pdf?src-supplier=Digikey; ComponentLink3URL: https://datasheet.ciiva.com/858/abm8g-858538.pdf?src-supplier=Digikey; ComponentLink3Description: https://datasheet.ciiva.com/858/abm8g-858538.pdf?src-supplier=Digikey; ComponentLink4URL: https://datasheet.ciiva.com/4944/abm8g-10572-4944590.pdf?src-supplier=Mouser; ComponentLink4Description: https://datasheet.ciiva.com/4944/abm8g-10572-4944590.pdf?src-supplier=Mouser; ComponentLink5URL: https://datasheet.ciiva.com/16377/abm8g-16377990.pdf?src-supplier=Future+Electronics; ComponentLink5Description: https://datasheet.ciiva.com/16377/abm8g-16377990.pdf?src-supplier=Future+Electronics
footprint XTAL_ABM8G_3225
pins: 1, 2 SH, 3, 4 SH hidden, 4 SH